# Altium footprint library DEOP2324.PcbLib: 23 footprints (part 2 of 2)
Each footprint in its own frame and in the unit in brackets; x right, y up, seen from the top. Pads: shape width x height; smd on the part's side, far side on the other; paste and mask are expansions set on the pad; w line width, h text height; cw(c..) or ccw(c..) is an arc to the next point about the centre after c.
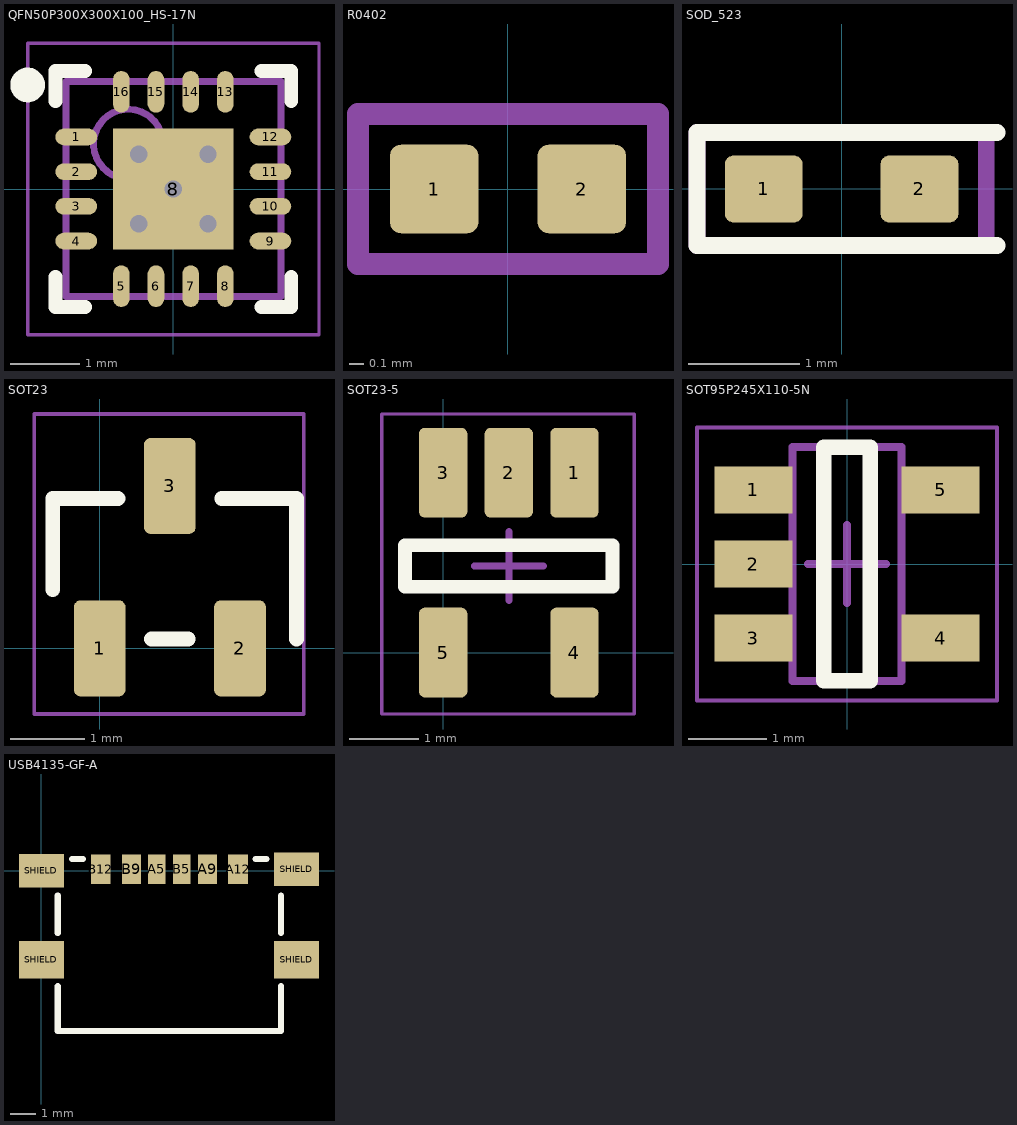
[diagram p1: the footprints below, top view; thin cyan lines are the x and y axes]

## QFN50P300X300X100_HS-17N [mm] "QFN, 16-Leads, Body 3,00x3,00mm, Pitch 0,50mm, Thermal Pad 1,74x1,74mm, IPC Medium Density"
height 1
pads (17):
  oval 0.6x0.24 smd: 1(-1.4,0.75) 2(-1.4,0.25) 3(-1.4,-0.25) 4(-1.4,-0.75) 9(1.4,-0.75) 10(1.4,-0.25) 11(1.4,0.25) 12(1.4,0.75)
  oval 0.24x0.6 smd: 5(-0.75,-1.4) 6(-0.25,-1.4) 7(0.25,-1.4) 8(0.75,-1.4) 13(0.75,1.4) 14(0.25,1.4) 15(-0.25,1.4) 16(-0.75,1.4)
  rect 1.74x1.74 smd: 8(0,0)
via 0,0 diameter 0.55 hole 0.25
via 0.5,0.5 diameter 0.55 hole 0.25
via -0.5,-0.5 diameter 0.55 hole 0.25
via 0.5,-0.5 diameter 0.55 hole 0.25
via -0.5,0.5 diameter 0.55 hole 0.25
Top Overlay:
  circle w0.25: c-2.1,1.5 r0.125
  lines w0.2: -1.7,-1.27 -1.7,-1.7 -1.27,-1.7 ; -1.7,1.27 -1.7,1.7 -1.27,1.7 ; 1.27,-1.7 1.7,-1.7 1.7,-1.27 ; 1.27,1.7 1.7,1.7 1.7,1.27
Mechanical 13:
  circle w0.1: c-0.65,0.65 r0.5
  lines w0.1: -1.55,-1.55 -1.55,1.55 1.55,1.55 1.55,-1.55 -1.55,-1.55
Mechanical 15:
  lines w0.05: -2.1,-2.1 -2.1,2.1 2.1,2.1 2.1,-2.1 -2.1,-2.1
  lines w0.1: -0.5,0 0.5,0 ; 0,-0.5 0,0.5
3D body "QFN50P300X300X100_HS-17N.step": height 1, standoff 0, extent -1.6,-1.6 1.6,1.6

## R0402 [mm]
pads (2):
  rrect25% 0.6x0.6 smd: 1(-0.5,0) 2(0.5,0)
Mechanical 1:
  lines w0.15: -1.016,-0.508 1.016,-0.508 1.016,0.508 -1.016,0.508 -1.016,-0.508
3D body "R_0402_1005Metric.step": height 0.35, standoff 0, extent -0.5,-0.25 0.5,0.25

## SOD_523 [mm]
pads (2):
  rrect25% 0.7x0.6 smd: 1(-0.7,0) 2(0.7,0)
Top Overlay:
  lines w0.15: 1.397,-0.508 -1.3,-0.508 -1.3,0.508 1.397,0.508
Mechanical 1:
  lines w0.15: -1.3,-0.508 -1.3,0.508 1.3,0.508 1.3,-0.508 -1.3,-0.508
3D body "D_SOD-523.step": height 0.63, standoff 0, extent -0.8,-0.4 0.8,0.4

## SOT23 [mm]
pads (3):
  rrect25% 0.7x1.3 smd: 1(0,0) 2(1.9,0) 3(0.95,2.2)
Top Overlay:
  lines w0.2: -0.635,0.795 -0.635,2.032 0.248,2.032 ; 0.702,0.127 1.198,0.127 ; 1.652,2.032 2.667,2.032 2.667,0.127
Mechanical 15:
  lines w0.05: -0.889,-0.889 -0.889,3.175 2.766,3.175 2.766,-0.889 -0.889,-0.889
3D body "SOT-23.step": height 1.2, standoff 0, extent -0.55,-0.11 2.45,2.39

## SOT23-5 [mm]
pads (5):
  rrect25% 0.7x1.3 smd: 1(1.9,2.6) 2(0.95,2.6) 3(0,2.6) 4(1.9,0) 5(0,0)
Top Overlay:
  lines w0.2: -0.55,0.95 2.45,0.95 2.45,1.55 -0.55,1.55 -0.55,0.95
Mechanical 15:
  lines w0.05: -0.889,-0.889 -0.889,-0.463 -0.889,-0.231 -0.889,0.35 -0.889,2.209 -0.889,3.449 2.766,3.449 2.766,-0.889 -0.889,-0.889
  lines w0.1: 0.45,1.25 1.45,1.25 ; 0.95,0.75 0.95,1.75
3D body "SOT-23-5.step": height 1.55, standoff 0, extent -0.5,-0.1 2.4,2.7

## SOT95P245X110-5N [mm] "SOT23, 5-Leads, Body 2,90x2,45mm, Pitch 0,95mm, IPC Medium Density"
height 1.1
pads (5):
  rect 1x0.6 smd: 1(-1.2,0.95) 2(-1.2,0) 3(-1.2,-0.95) 4(1.2,-0.95) 5(1.2,0.95)
Top Overlay:
  lines w0.2: -0.3,-1.5 -0.3,1.5 0.3,1.5 0.3,-1.5 -0.3,-1.5
Mechanical 13:
  lines w0.1: -0.7,-1.5 0.7,-1.5 0.7,1.5 -0.7,1.5 -0.7,-1.5
Mechanical 15:
  lines w0.05: -1.925,-1.75 1.925,-1.75 1.925,1.75 -1.925,1.75 -1.925,-1.75
  lines w0.1: -0.5,0 0.5,0 ; 0,-0.5 0,0.5
3D body: height 1.1, standoff 0.05, extent -0.7,-1.5 0.7,1.5

## USB4135-GF-A [mm] "USB 2.0 Type C connector for power only."
height 3.22
pads (10):
  rect 0.7x1.2 smd: A5(4.625,0.055) B5(5.625,0.055)
  rect 0.76x1.2 smd: A9(6.645,0.055) B9(3.605,0.055)
  rect 0.8x1.2 smd: A12(7.875,0.055) B12(2.375,0.055)
  rect 1.8x1.5 smd: SHIELD(0,-3.58) SHIELD(10.22,-3.58)
  rect 1.8x1.35 smd: SHIELD(0,0) SHIELD(10.22,0.049)
Top Overlay:
  lines w0.25: 0.655,-4.63 0.655,-6.43 9.595,-6.43 9.595,-4.63 ; 0.655,-2.5 0.655,-1 ; 1.22,0.47 1.65,0.47 ; 8.59,0.47 9.02,0.47 ; 9.595,-2.5 9.595,-1
3D body "USB4135-GF-A.stp": height 3.26, standoff 0.01, extent -0.445,-6.43 10.695,0.47